# Altium footprint library BGA_Sq_127P.PcbLib: 89 footprints (part 7 of 20)
Each footprint in its own frame and in the unit in brackets; x right, y up, seen from the top. Pads: shape width x height; smd on the part's side, far side on the other; paste and mask are expansions set on the pad; w line width, h text height; cw(c..) or ccw(c..) is an arc to the next point about the centre after c.
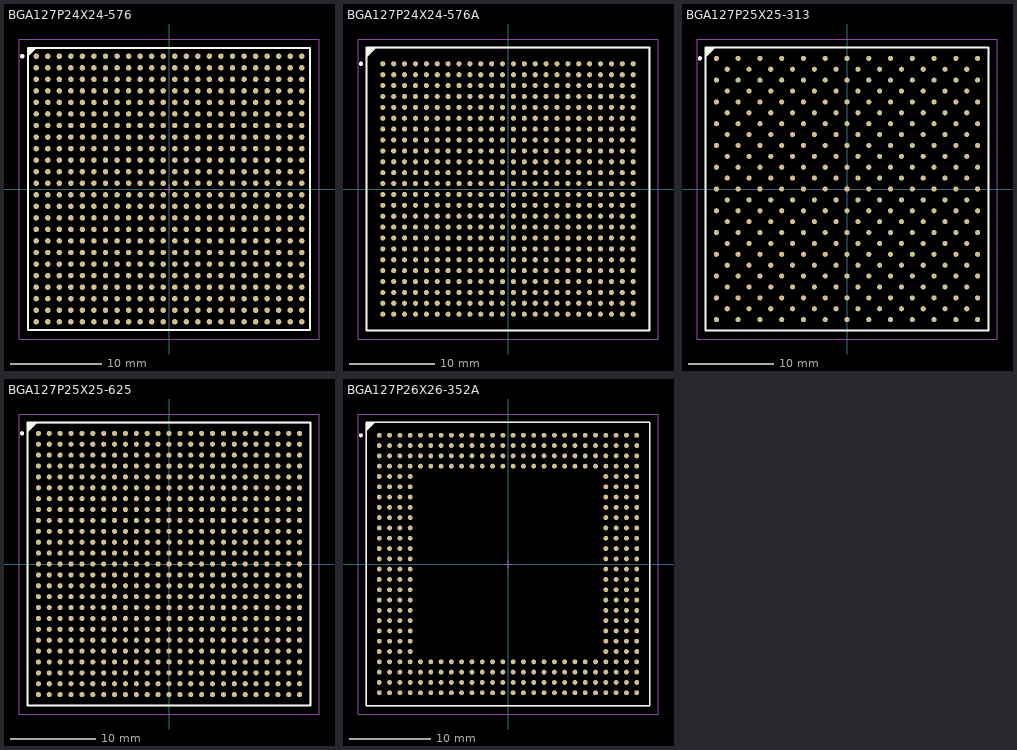
[diagram p6: the footprints below, top view; thin cyan lines are the x and y axes]

## BGA127P24X24-576 [mm] "BGA, 576-Leads, Body 31x31mm, Pitch 1.27mm"
height 3.5
pads (576):
  round 0.6 smd: A1(-14.605,14.605) A2(-13.335,14.605) A3(-12.065,14.605) A4(-10.795,14.605) A5(-9.525,14.605) A6(-8.255,14.605) A7(-6.985,14.605) A8(-5.715,14.605) A9(-4.445,14.605) A10(-3.175,14.605) A11(-1.905,14.605) A12(-0.635,14.605) A13(0.635,14.605) A14(1.905,14.605) A15(3.175,14.605) A16(4.445,14.605) A17(5.715,14.605) A18(6.985,14.605) A19(8.255,14.605) A20(9.525,14.605) A21(10.795,14.605) A22(12.065,14.605) A23(13.335,14.605) A24(14.605,14.605) AA1(-14.605,-10.795) AA2(-13.335,-10.795) AA3(-12.065,-10.795) AA4(-10.795,-10.795) AA5(-9.525,-10.795) AA6(-8.255,-10.795) AA7(-6.985,-10.795) AA8(-5.715,-10.795) AA9(-4.445,-10.795) AA10(-3.175,-10.795) AA11(-1.905,-10.795) AA12(-0.635,-10.795) AA13(0.635,-10.795) AA14(1.905,-10.795) AA15(3.175,-10.795) AA16(4.445,-10.795) AA17(5.715,-10.795) AA18(6.985,-10.795) AA19(8.255,-10.795) AA20(9.525,-10.795) AA21(10.795,-10.795) AA22(12.065,-10.795) AA23(13.335,-10.795) AA24(14.605,-10.795) AB1(-14.605,-12.065) AB2(-13.335,-12.065) AB3(-12.065,-12.065) AB4(-10.795,-12.065) AB5(-9.525,-12.065) AB6(-8.255,-12.065) AB7(-6.985,-12.065) AB8(-5.715,-12.065) AB9(-4.445,-12.065) AB10(-3.175,-12.065) AB11(-1.905,-12.065) AB12(-0.635,-12.065) AB13(0.635,-12.065) AB14(1.905,-12.065) AB15(3.175,-12.065) AB16(4.445,-12.065) AB17(5.715,-12.065) AB18(6.985,-12.065) AB19(8.255,-12.065) AB20(9.525,-12.065) AB21(10.795,-12.065) AB22(12.065,-12.065) AB23(13.335,-12.065) AB24(14.605,-12.065) AC1(-14.605,-13.335) AC2(-13.335,-13.335) AC3(-12.065,-13.335) AC4(-10.795,-13.335) AC5(-9.525,-13.335) AC6(-8.255,-13.335) AC7(-6.985,-13.335) AC8(-5.715,-13.335) AC9(-4.445,-13.335) AC10(-3.175,-13.335) AC11(-1.905,-13.335) AC12(-0.635,-13.335) AC13(0.635,-13.335) AC14(1.905,-13.335) AC15(3.175,-13.335) AC16(4.445,-13.335) AC17(5.715,-13.335) AC18(6.985,-13.335) AC19(8.255,-13.335) AC20(9.525,-13.335) AC21(10.795,-13.335) AC22(12.065,-13.335) AC23(13.335,-13.335) AC24(14.605,-13.335) AD1(-14.605,-14.605) AD2(-13.335,-14.605) AD3(-12.065,-14.605) AD4(-10.795,-14.605) AD5(-9.525,-14.605) AD6(-8.255,-14.605) AD7(-6.985,-14.605) AD8(-5.715,-14.605) AD9(-4.445,-14.605) AD10(-3.175,-14.605) AD11(-1.905,-14.605) AD12(-0.635,-14.605) AD13(0.635,-14.605) AD14(1.905,-14.605) AD15(3.175,-14.605) AD16(4.445,-14.605) AD17(5.715,-14.605) AD18(6.985,-14.605) AD19(8.255,-14.605) AD20(9.525,-14.605) AD21(10.795,-14.605) AD22(12.065,-14.605) AD23(13.335,-14.605) AD24(14.605,-14.605) B1(-14.605,13.335) B2(-13.335,13.335) B3(-12.065,13.335) B4(-10.795,13.335) B5(-9.525,13.335) B6(-8.255,13.335) B7(-6.985,13.335) B8(-5.715,13.335) B9(-4.445,13.335) B10(-3.175,13.335) B11(-1.905,13.335) B12(-0.635,13.335) B13(0.635,13.335) B14(1.905,13.335) B15(3.175,13.335) B16(4.445,13.335) B17(5.715,13.335) B18(6.985,13.335) B19(8.255,13.335) B20(9.525,13.335) B21(10.795,13.335) B22(12.065,13.335) B23(13.335,13.335) B24(14.605,13.335) C1(-14.605,12.065) C2(-13.335,12.065) C3(-12.065,12.065) C4(-10.795,12.065) C5(-9.525,12.065) C6(-8.255,12.065) C7(-6.985,12.065) C8(-5.715,12.065) C9(-4.445,12.065) C10(-3.175,12.065) C11(-1.905,12.065) C12(-0.635,12.065) C13(0.635,12.065) C14(1.905,12.065) C15(3.175,12.065) C16(4.445,12.065) C17(5.715,12.065) C18(6.985,12.065) C19(8.255,12.065) C20(9.525,12.065) C21(10.795,12.065) C22(12.065,12.065) C23(13.335,12.065) C24(14.605,12.065) D1(-14.605,10.795) D2(-13.335,10.795) D3(-12.065,10.795) D4(-10.795,10.795) D5(-9.525,10.795) D6(-8.255,10.795) D7(-6.985,10.795) D8(-5.715,10.795) D9(-4.445,10.795) D10(-3.175,10.795) D11(-1.905,10.795) D12(-0.635,10.795) D13(0.635,10.795) D14(1.905,10.795) D15(3.175,10.795) D16(4.445,10.795) D17(5.715,10.795) D18(6.985,10.795) D19(8.255,10.795) D20(9.525,10.795) D21(10.795,10.795) D22(12.065,10.795) D23(13.335,10.795) D24(14.605,10.795) E1(-14.605,9.525) E2(-13.335,9.525) E3(-12.065,9.525) E4(-10.795,9.525) E5(-9.525,9.525) E6(-8.255,9.525) E7(-6.985,9.525) E8(-5.715,9.525) E9(-4.445,9.525) E10(-3.175,9.525) E11(-1.905,9.525) E12(-0.635,9.525) E13(0.635,9.525) E14(1.905,9.525) E15(3.175,9.525) E16(4.445,9.525) E17(5.715,9.525) E18(6.985,9.525) E19(8.255,9.525) E20(9.525,9.525) E21(10.795,9.525) E22(12.065,9.525) E23(13.335,9.525) E24(14.605,9.525) F1(-14.605,8.255) F2(-13.335,8.255) F3(-12.065,8.255) F4(-10.795,8.255) F5(-9.525,8.255) F6(-8.255,8.255) F7(-6.985,8.255) F8(-5.715,8.255) F9(-4.445,8.255) F10(-3.175,8.255) F11(-1.905,8.255) F12(-0.635,8.255) F13(0.635,8.255) F14(1.905,8.255) F15(3.175,8.255) F16(4.445,8.255) F17(5.715,8.255) F18(6.985,8.255) F19(8.255,8.255) F20(9.525,8.255) F21(10.795,8.255) F22(12.065,8.255) F23(13.335,8.255) F24(14.605,8.255) G1(-14.605,6.985) G2(-13.335,6.985) G3(-12.065,6.985) G4(-10.795,6.985) G5(-9.525,6.985) G6(-8.255,6.985) G7(-6.985,6.985) G8(-5.715,6.985) G9(-4.445,6.985) G10(-3.175,6.985) G11(-1.905,6.985) G12(-0.635,6.985) G13(0.635,6.985) G14(1.905,6.985) G15(3.175,6.985) G16(4.445,6.985) G17(5.715,6.985) G18(6.985,6.985) G19(8.255,6.985) G20(9.525,6.985) G21(10.795,6.985) G22(12.065,6.985) G23(13.335,6.985) G24(14.605,6.985) H1(-14.605,5.715) H2(-13.335,5.715) H3(-12.065,5.715) H4(-10.795,5.715) H5(-9.525,5.715) H6(-8.255,5.715) H7(-6.985,5.715) H8(-5.715,5.715) H9(-4.445,5.715) H10(-3.175,5.715) H11(-1.905,5.715) H12(-0.635,5.715) H13(0.635,5.715) H14(1.905,5.715) H15(3.175,5.715) H16(4.445,5.715) H17(5.715,5.715) H18(6.985,5.715) H19(8.255,5.715) H20(9.525,5.715) H21(10.795,5.715) H22(12.065,5.715) H23(13.335,5.715) H24(14.605,5.715) J1(-14.605,4.445) J2(-13.335,4.445) J3(-12.065,4.445) J4(-10.795,4.445) J5(-9.525,4.445) J6(-8.255,4.445) J7(-6.985,4.445) J8(-5.715,4.445) J9(-4.445,4.445) J10(-3.175,4.445) J11(-1.905,4.445) J12(-0.635,4.445) J13(0.635,4.445) J14(1.905,4.445) J15(3.175,4.445) J16(4.445,4.445) J17(5.715,4.445) J18(6.985,4.445) J19(8.255,4.445) J20(9.525,4.445) J21(10.795,4.445) J22(12.065,4.445) J23(13.335,4.445) J24(14.605,4.445) K1(-14.605,3.175) K2(-13.335,3.175) K3(-12.065,3.175) K4(-10.795,3.175) K5(-9.525,3.175) K6(-8.255,3.175) K7(-6.985,3.175) K8(-5.715,3.175) K9(-4.445,3.175) K10(-3.175,3.175) K11(-1.905,3.175) K12(-0.635,3.175) K13(0.635,3.175) K14(1.905,3.175) K15(3.175,3.175) K16(4.445,3.175) K17(5.715,3.175) K18(6.985,3.175) K19(8.255,3.175) K20(9.525,3.175) K21(10.795,3.175) K22(12.065,3.175) K23(13.335,3.175) K24(14.605,3.175) L1(-14.605,1.905) L2(-13.335,1.905) L3(-12.065,1.905) L4(-10.795,1.905) L5(-9.525,1.905) L6(-8.255,1.905) L7(-6.985,1.905) L8(-5.715,1.905) L9(-4.445,1.905) L10(-3.175,1.905) L11(-1.905,1.905) L12(-0.635,1.905) L13(0.635,1.905) L14(1.905,1.905) L15(3.175,1.905) L16(4.445,1.905) L17(5.715,1.905) L18(6.985,1.905) L19(8.255,1.905) L20(9.525,1.905) L21(10.795,1.905) L22(12.065,1.905) L23(13.335,1.905) L24(14.605,1.905) M1(-14.605,0.635) M2(-13.335,0.635) M3(-12.065,0.635) M4(-10.795,0.635) M5(-9.525,0.635) M6(-8.255,0.635) M7(-6.985,0.635) M8(-5.715,0.635) M9(-4.445,0.635) M10(-3.175,0.635) M11(-1.905,0.635) M12(-0.635,0.635) M13(0.635,0.635) M14(1.905,0.635) M15(3.175,0.635) M16(4.445,0.635) M17(5.715,0.635) M18(6.985,0.635) M19(8.255,0.635) M20(9.525,0.635) M21(10.795,0.635) M22(12.065,0.635) M23(13.335,0.635) M24(14.605,0.635) N1(-14.605,-0.635) N2(-13.335,-0.635) N3(-12.065,-0.635) N4(-10.795,-0.635) N5(-9.525,-0.635) N6(-8.255,-0.635) N7(-6.985,-0.635) N8(-5.715,-0.635) N9(-4.445,-0.635) N10(-3.175,-0.635) N11(-1.905,-0.635) N12(-0.635,-0.635) N13(0.635,-0.635) N14(1.905,-0.635) N15(3.175,-0.635) N16(4.445,-0.635) N17(5.715,-0.635) N18(6.985,-0.635) N19(8.255,-0.635) N20(9.525,-0.635) N21(10.795,-0.635) N22(12.065,-0.635) N23(13.335,-0.635) N24(14.605,-0.635) P1(-14.605,-1.905) P2(-13.335,-1.905) P3(-12.065,-1.905) P4(-10.795,-1.905) P5(-9.525,-1.905) P6(-8.255,-1.905) P7(-6.985,-1.905) P8(-5.715,-1.905) P9(-4.445,-1.905) P10(-3.175,-1.905) P11(-1.905,-1.905) P12(-0.635,-1.905) P13(0.635,-1.905) P14(1.905,-1.905) P15(3.175,-1.905) P16(4.445,-1.905) P17(5.715,-1.905) P18(6.985,-1.905) P19(8.255,-1.905) P20(9.525,-1.905) P21(10.795,-1.905) P22(12.065,-1.905) P23(13.335,-1.905) P24(14.605,-1.905) R1(-14.605,-3.175) R2(-13.335,-3.175) R3(-12.065,-3.175) R4(-10.795,-3.175) R5(-9.525,-3.175) R6(-8.255,-3.175) R7(-6.985,-3.175) R8(-5.715,-3.175) R9(-4.445,-3.175) R10(-3.175,-3.175) R11(-1.905,-3.175) R12(-0.635,-3.175) R13(0.635,-3.175) R14(1.905,-3.175) R15(3.175,-3.175) R16(4.445,-3.175) R17(5.715,-3.175) R18(6.985,-3.175) R19(8.255,-3.175) R20(9.525,-3.175) R21(10.795,-3.175) R22(12.065,-3.175) R23(13.335,-3.175) R24(14.605,-3.175) T1(-14.605,-4.445) T2(-13.335,-4.445) T3(-12.065,-4.445) T4(-10.795,-4.445) T5(-9.525,-4.445) T6(-8.255,-4.445) T7(-6.985,-4.445) T8(-5.715,-4.445) T9(-4.445,-4.445) T10(-3.175,-4.445) T11(-1.905,-4.445) T12(-0.635,-4.445) T13(0.635,-4.445) T14(1.905,-4.445) T15(3.175,-4.445) T16(4.445,-4.445) T17(5.715,-4.445) T18(6.985,-4.445) T19(8.255,-4.445) T20(9.525,-4.445) T21(10.795,-4.445) T22(12.065,-4.445) T23(13.335,-4.445) T24(14.605,-4.445) U1(-14.605,-5.715) U2(-13.335,-5.715) U3(-12.065,-5.715) U4(-10.795,-5.715) U5(-9.525,-5.715) U6(-8.255,-5.715) U7(-6.985,-5.715) U8(-5.715,-5.715) U9(-4.445,-5.715) U10(-3.175,-5.715) U11(-1.905,-5.715) U12(-0.635,-5.715) U13(0.635,-5.715) U14(1.905,-5.715) U15(3.175,-5.715) U16(4.445,-5.715) U17(5.715,-5.715) U18(6.985,-5.715) U19(8.255,-5.715) U20(9.525,-5.715) U21(10.795,-5.715) U22(12.065,-5.715) U23(13.335,-5.715) U24(14.605,-5.715) V1(-14.605,-6.985) V2(-13.335,-6.985) V3(-12.065,-6.985) V4(-10.795,-6.985) V5(-9.525,-6.985) V6(-8.255,-6.985) V7(-6.985,-6.985) V8(-5.715,-6.985) V9(-4.445,-6.985) V10(-3.175,-6.985) V11(-1.905,-6.985) V12(-0.635,-6.985) V13(0.635,-6.985) V14(1.905,-6.985) V15(3.175,-6.985) V16(4.445,-6.985) V17(5.715,-6.985) V18(6.985,-6.985) V19(8.255,-6.985) V20(9.525,-6.985) V21(10.795,-6.985) V22(12.065,-6.985) V23(13.335,-6.985) V24(14.605,-6.985) W1(-14.605,-8.255) W2(-13.335,-8.255) W3(-12.065,-8.255) W4(-10.795,-8.255) W5(-9.525,-8.255) W6(-8.255,-8.255) W7(-6.985,-8.255) W8(-5.715,-8.255) W9(-4.445,-8.255) W10(-3.175,-8.255) W11(-1.905,-8.255) W12(-0.635,-8.255) W13(0.635,-8.255) W14(1.905,-8.255) W15(3.175,-8.255) W16(4.445,-8.255) W17(5.715,-8.255) W18(6.985,-8.255) W19(8.255,-8.255) W20(9.525,-8.255) W21(10.795,-8.255) W22(12.065,-8.255) W23(13.335,-8.255) W24(14.605,-8.255) Y1(-14.605,-9.525) Y2(-13.335,-9.525) Y3(-12.065,-9.525) Y4(-10.795,-9.525) Y5(-9.525,-9.525) Y6(-8.255,-9.525) Y7(-6.985,-9.525) Y8(-5.715,-9.525) Y9(-4.445,-9.525) Y10(-3.175,-9.525) Y11(-1.905,-9.525) Y12(-0.635,-9.525) Y13(0.635,-9.525) Y14(1.905,-9.525) Y15(3.175,-9.525) Y16(4.445,-9.525) Y17(5.715,-9.525) Y18(6.985,-9.525) Y19(8.255,-9.525) Y20(9.525,-9.525) Y21(10.795,-9.525) Y22(12.065,-9.525) Y23(13.335,-9.525) Y24(14.605,-9.525)
Top Overlay:
  circle w0.25: c-16.15,14.605 r0.125
  region: -14.7,15.5 -15.5,14.7 -15.5,15.5
  lines w0.2: -15.5,14.7 -14.7,15.5 ; -15.5,-15.5 15.5,-15.5 15.5,15.5 -15.5,15.5 -15.5,-15.5
Mechanical 13:
  lines w0.1: -15.5,-15.5 15.5,-15.5 15.5,15.5 -15.5,15.5 -15.5,-15.5
Mechanical 15:
  lines w0.1: -0.5,0 0.5,0 ; 0,-0.5 0,0.5 ; -16.5,-16.5 16.5,-16.5 16.5,16.5 -16.5,16.5 -16.5,-16.5
3D body: height 3.5, standoff 0, extent -15.5,-15.5 15.5,15.5

## BGA127P24X24-576A [mm] "BGA, 576-Leads, Body 33x33mm, Pitch 1.27mm"
height 3.5
pads (576):
  round 0.6 smd: A1(-14.605,14.605) A2(-13.335,14.605) A3(-12.065,14.605) A4(-10.795,14.605) A5(-9.525,14.605) A6(-8.255,14.605) A7(-6.985,14.605) A8(-5.715,14.605) A9(-4.445,14.605) A10(-3.175,14.605) A11(-1.905,14.605) A12(-0.635,14.605) A13(0.635,14.605) A14(1.905,14.605) A15(3.175,14.605) A16(4.445,14.605) A17(5.715,14.605) A18(6.985,14.605) A19(8.255,14.605) A20(9.525,14.605) A21(10.795,14.605) A22(12.065,14.605) A23(13.335,14.605) A24(14.605,14.605) AA1(-14.605,-10.795) AA2(-13.335,-10.795) AA3(-12.065,-10.795) AA4(-10.795,-10.795) AA5(-9.525,-10.795) AA6(-8.255,-10.795) AA7(-6.985,-10.795) AA8(-5.715,-10.795) AA9(-4.445,-10.795) AA10(-3.175,-10.795) AA11(-1.905,-10.795) AA12(-0.635,-10.795) AA13(0.635,-10.795) AA14(1.905,-10.795) AA15(3.175,-10.795) AA16(4.445,-10.795) AA17(5.715,-10.795) AA18(6.985,-10.795) AA19(8.255,-10.795) AA20(9.525,-10.795) AA21(10.795,-10.795) AA22(12.065,-10.795) AA23(13.335,-10.795) AA24(14.605,-10.795) AB1(-14.605,-12.065) AB2(-13.335,-12.065) AB3(-12.065,-12.065) AB4(-10.795,-12.065) AB5(-9.525,-12.065) AB6(-8.255,-12.065) AB7(-6.985,-12.065) AB8(-5.715,-12.065) AB9(-4.445,-12.065) AB10(-3.175,-12.065) AB11(-1.905,-12.065) AB12(-0.635,-12.065) AB13(0.635,-12.065) AB14(1.905,-12.065) AB15(3.175,-12.065) AB16(4.445,-12.065) AB17(5.715,-12.065) AB18(6.985,-12.065) AB19(8.255,-12.065) AB20(9.525,-12.065) AB21(10.795,-12.065) AB22(12.065,-12.065) AB23(13.335,-12.065) AB24(14.605,-12.065) AC1(-14.605,-13.335) AC2(-13.335,-13.335) AC3(-12.065,-13.335) AC4(-10.795,-13.335) AC5(-9.525,-13.335) AC6(-8.255,-13.335) AC7(-6.985,-13.335) AC8(-5.715,-13.335) AC9(-4.445,-13.335) AC10(-3.175,-13.335) AC11(-1.905,-13.335) AC12(-0.635,-13.335) AC13(0.635,-13.335) AC14(1.905,-13.335) AC15(3.175,-13.335) AC16(4.445,-13.335) AC17(5.715,-13.335) AC18(6.985,-13.335) AC19(8.255,-13.335) AC20(9.525,-13.335) AC21(10.795,-13.335) AC22(12.065,-13.335) AC23(13.335,-13.335) AC24(14.605,-13.335) AD1(-14.605,-14.605) AD2(-13.335,-14.605) AD3(-12.065,-14.605) AD4(-10.795,-14.605) AD5(-9.525,-14.605) AD6(-8.255,-14.605) AD7(-6.985,-14.605) AD8(-5.715,-14.605) AD9(-4.445,-14.605) AD10(-3.175,-14.605) AD11(-1.905,-14.605) AD12(-0.635,-14.605) AD13(0.635,-14.605) AD14(1.905,-14.605) AD15(3.175,-14.605) AD16(4.445,-14.605) AD17(5.715,-14.605) AD18(6.985,-14.605) AD19(8.255,-14.605) AD20(9.525,-14.605) AD21(10.795,-14.605) AD22(12.065,-14.605) AD23(13.335,-14.605) AD24(14.605,-14.605) B1(-14.605,13.335) B2(-13.335,13.335) B3(-12.065,13.335) B4(-10.795,13.335) B5(-9.525,13.335) B6(-8.255,13.335) B7(-6.985,13.335) B8(-5.715,13.335) B9(-4.445,13.335) B10(-3.175,13.335) B11(-1.905,13.335) B12(-0.635,13.335) B13(0.635,13.335) B14(1.905,13.335) B15(3.175,13.335) B16(4.445,13.335) B17(5.715,13.335) B18(6.985,13.335) B19(8.255,13.335) B20(9.525,13.335) B21(10.795,13.335) B22(12.065,13.335) B23(13.335,13.335) B24(14.605,13.335) C1(-14.605,12.065) C2(-13.335,12.065) C3(-12.065,12.065) C4(-10.795,12.065) C5(-9.525,12.065) C6(-8.255,12.065) C7(-6.985,12.065) C8(-5.715,12.065) C9(-4.445,12.065) C10(-3.175,12.065) C11(-1.905,12.065) C12(-0.635,12.065) C13(0.635,12.065) C14(1.905,12.065) C15(3.175,12.065) C16(4.445,12.065) C17(5.715,12.065) C18(6.985,12.065) C19(8.255,12.065) C20(9.525,12.065) C21(10.795,12.065) C22(12.065,12.065) C23(13.335,12.065) C24(14.605,12.065) D1(-14.605,10.795) D2(-13.335,10.795) D3(-12.065,10.795) D4(-10.795,10.795) D5(-9.525,10.795) D6(-8.255,10.795) D7(-6.985,10.795) D8(-5.715,10.795) D9(-4.445,10.795) D10(-3.175,10.795) D11(-1.905,10.795) D12(-0.635,10.795) D13(0.635,10.795) D14(1.905,10.795) D15(3.175,10.795) D16(4.445,10.795) D17(5.715,10.795) D18(6.985,10.795) D19(8.255,10.795) D20(9.525,10.795) D21(10.795,10.795) D22(12.065,10.795) D23(13.335,10.795) D24(14.605,10.795) E1(-14.605,9.525) E2(-13.335,9.525) E3(-12.065,9.525) E4(-10.795,9.525) E5(-9.525,9.525) E6(-8.255,9.525) E7(-6.985,9.525) E8(-5.715,9.525) E9(-4.445,9.525) E10(-3.175,9.525) E11(-1.905,9.525) E12(-0.635,9.525) E13(0.635,9.525) E14(1.905,9.525) E15(3.175,9.525) E16(4.445,9.525) E17(5.715,9.525) E18(6.985,9.525) E19(8.255,9.525) E20(9.525,9.525) E21(10.795,9.525) E22(12.065,9.525) E23(13.335,9.525) E24(14.605,9.525) F1(-14.605,8.255) F2(-13.335,8.255) F3(-12.065,8.255) F4(-10.795,8.255) F5(-9.525,8.255) F6(-8.255,8.255) F7(-6.985,8.255) F8(-5.715,8.255) F9(-4.445,8.255) F10(-3.175,8.255) F11(-1.905,8.255) F12(-0.635,8.255) F13(0.635,8.255) F14(1.905,8.255) F15(3.175,8.255) F16(4.445,8.255) F17(5.715,8.255) F18(6.985,8.255) F19(8.255,8.255) F20(9.525,8.255) F21(10.795,8.255) F22(12.065,8.255) F23(13.335,8.255) F24(14.605,8.255) G1(-14.605,6.985) G2(-13.335,6.985) G3(-12.065,6.985) G4(-10.795,6.985) G5(-9.525,6.985) G6(-8.255,6.985) G7(-6.985,6.985) G8(-5.715,6.985) G9(-4.445,6.985) G10(-3.175,6.985) G11(-1.905,6.985) G12(-0.635,6.985) G13(0.635,6.985) G14(1.905,6.985) G15(3.175,6.985) G16(4.445,6.985) G17(5.715,6.985) G18(6.985,6.985) G19(8.255,6.985) G20(9.525,6.985) G21(10.795,6.985) G22(12.065,6.985) G23(13.335,6.985) G24(14.605,6.985) H1(-14.605,5.715) H2(-13.335,5.715) H3(-12.065,5.715) H4(-10.795,5.715) H5(-9.525,5.715) H6(-8.255,5.715) H7(-6.985,5.715) H8(-5.715,5.715) H9(-4.445,5.715) H10(-3.175,5.715) H11(-1.905,5.715) H12(-0.635,5.715) H13(0.635,5.715) H14(1.905,5.715) H15(3.175,5.715) H16(4.445,5.715) H17(5.715,5.715) H18(6.985,5.715) H19(8.255,5.715) H20(9.525,5.715) H21(10.795,5.715) H22(12.065,5.715) H23(13.335,5.715) H24(14.605,5.715) J1(-14.605,4.445) J2(-13.335,4.445) J3(-12.065,4.445) J4(-10.795,4.445) J5(-9.525,4.445) J6(-8.255,4.445) J7(-6.985,4.445) J8(-5.715,4.445) J9(-4.445,4.445) J10(-3.175,4.445) J11(-1.905,4.445) J12(-0.635,4.445) J13(0.635,4.445) J14(1.905,4.445) J15(3.175,4.445) J16(4.445,4.445) J17(5.715,4.445) J18(6.985,4.445) J19(8.255,4.445) J20(9.525,4.445) J21(10.795,4.445) J22(12.065,4.445) J23(13.335,4.445) J24(14.605,4.445) K1(-14.605,3.175) K2(-13.335,3.175) K3(-12.065,3.175) K4(-10.795,3.175) K5(-9.525,3.175) K6(-8.255,3.175) K7(-6.985,3.175) K8(-5.715,3.175) K9(-4.445,3.175) K10(-3.175,3.175) K11(-1.905,3.175) K12(-0.635,3.175) K13(0.635,3.175) K14(1.905,3.175) K15(3.175,3.175) K16(4.445,3.175) K17(5.715,3.175) K18(6.985,3.175) K19(8.255,3.175) K20(9.525,3.175) K21(10.795,3.175) K22(12.065,3.175) K23(13.335,3.175) K24(14.605,3.175) L1(-14.605,1.905) L2(-13.335,1.905) L3(-12.065,1.905) L4(-10.795,1.905) L5(-9.525,1.905) L6(-8.255,1.905) L7(-6.985,1.905) L8(-5.715,1.905) L9(-4.445,1.905) L10(-3.175,1.905) L11(-1.905,1.905) L12(-0.635,1.905) L13(0.635,1.905) L14(1.905,1.905) L15(3.175,1.905) L16(4.445,1.905) L17(5.715,1.905) L18(6.985,1.905) L19(8.255,1.905) L20(9.525,1.905) L21(10.795,1.905) L22(12.065,1.905) L23(13.335,1.905) L24(14.605,1.905) M1(-14.605,0.635) M2(-13.335,0.635) M3(-12.065,0.635) M4(-10.795,0.635) M5(-9.525,0.635) M6(-8.255,0.635) M7(-6.985,0.635) M8(-5.715,0.635) M9(-4.445,0.635) M10(-3.175,0.635) M11(-1.905,0.635) M12(-0.635,0.635) M13(0.635,0.635) M14(1.905,0.635) M15(3.175,0.635) M16(4.445,0.635) M17(5.715,0.635) M18(6.985,0.635) M19(8.255,0.635) M20(9.525,0.635) M21(10.795,0.635) M22(12.065,0.635) M23(13.335,0.635) M24(14.605,0.635) N1(-14.605,-0.635) N2(-13.335,-0.635) N3(-12.065,-0.635) N4(-10.795,-0.635) N5(-9.525,-0.635) N6(-8.255,-0.635) N7(-6.985,-0.635) N8(-5.715,-0.635) N9(-4.445,-0.635) N10(-3.175,-0.635) N11(-1.905,-0.635) N12(-0.635,-0.635) N13(0.635,-0.635) N14(1.905,-0.635) N15(3.175,-0.635) N16(4.445,-0.635) N17(5.715,-0.635) N18(6.985,-0.635) N19(8.255,-0.635) N20(9.525,-0.635) N21(10.795,-0.635) N22(12.065,-0.635) N23(13.335,-0.635) N24(14.605,-0.635) P1(-14.605,-1.905) P2(-13.335,-1.905) P3(-12.065,-1.905) P4(-10.795,-1.905) P5(-9.525,-1.905) P6(-8.255,-1.905) P7(-6.985,-1.905) P8(-5.715,-1.905) P9(-4.445,-1.905) P10(-3.175,-1.905) P11(-1.905,-1.905) P12(-0.635,-1.905) P13(0.635,-1.905) P14(1.905,-1.905) P15(3.175,-1.905) P16(4.445,-1.905) P17(5.715,-1.905) P18(6.985,-1.905) P19(8.255,-1.905) P20(9.525,-1.905) P21(10.795,-1.905) P22(12.065,-1.905) P23(13.335,-1.905) P24(14.605,-1.905) R1(-14.605,-3.175) R2(-13.335,-3.175) R3(-12.065,-3.175) R4(-10.795,-3.175) R5(-9.525,-3.175) R6(-8.255,-3.175) R7(-6.985,-3.175) R8(-5.715,-3.175) R9(-4.445,-3.175) R10(-3.175,-3.175) R11(-1.905,-3.175) R12(-0.635,-3.175) R13(0.635,-3.175) R14(1.905,-3.175) R15(3.175,-3.175) R16(4.445,-3.175) R17(5.715,-3.175) R18(6.985,-3.175) R19(8.255,-3.175) R20(9.525,-3.175) R21(10.795,-3.175) R22(12.065,-3.175) R23(13.335,-3.175) R24(14.605,-3.175) T1(-14.605,-4.445) T2(-13.335,-4.445) T3(-12.065,-4.445) T4(-10.795,-4.445) T5(-9.525,-4.445) T6(-8.255,-4.445) T7(-6.985,-4.445) T8(-5.715,-4.445) T9(-4.445,-4.445) T10(-3.175,-4.445) T11(-1.905,-4.445) T12(-0.635,-4.445) T13(0.635,-4.445) T14(1.905,-4.445) T15(3.175,-4.445) T16(4.445,-4.445) T17(5.715,-4.445) T18(6.985,-4.445) T19(8.255,-4.445) T20(9.525,-4.445) T21(10.795,-4.445) T22(12.065,-4.445) T23(13.335,-4.445) T24(14.605,-4.445) U1(-14.605,-5.715) U2(-13.335,-5.715) U3(-12.065,-5.715) U4(-10.795,-5.715) U5(-9.525,-5.715) U6(-8.255,-5.715) U7(-6.985,-5.715) U8(-5.715,-5.715) U9(-4.445,-5.715) U10(-3.175,-5.715) U11(-1.905,-5.715) U12(-0.635,-5.715) U13(0.635,-5.715) U14(1.905,-5.715) U15(3.175,-5.715) U16(4.445,-5.715) U17(5.715,-5.715) U18(6.985,-5.715) U19(8.255,-5.715) U20(9.525,-5.715) U21(10.795,-5.715) U22(12.065,-5.715) U23(13.335,-5.715) U24(14.605,-5.715) V1(-14.605,-6.985) V2(-13.335,-6.985) V3(-12.065,-6.985) V4(-10.795,-6.985) V5(-9.525,-6.985) V6(-8.255,-6.985) V7(-6.985,-6.985) V8(-5.715,-6.985) V9(-4.445,-6.985) V10(-3.175,-6.985) V11(-1.905,-6.985) V12(-0.635,-6.985) V13(0.635,-6.985) V14(1.905,-6.985) V15(3.175,-6.985) V16(4.445,-6.985) V17(5.715,-6.985) V18(6.985,-6.985) V19(8.255,-6.985) V20(9.525,-6.985) V21(10.795,-6.985) V22(12.065,-6.985) V23(13.335,-6.985) V24(14.605,-6.985) W1(-14.605,-8.255) W2(-13.335,-8.255) W3(-12.065,-8.255) W4(-10.795,-8.255) W5(-9.525,-8.255) W6(-8.255,-8.255) W7(-6.985,-8.255) W8(-5.715,-8.255) W9(-4.445,-8.255) W10(-3.175,-8.255) W11(-1.905,-8.255) W12(-0.635,-8.255) W13(0.635,-8.255) W14(1.905,-8.255) W15(3.175,-8.255) W16(4.445,-8.255) W17(5.715,-8.255) W18(6.985,-8.255) W19(8.255,-8.255) W20(9.525,-8.255) W21(10.795,-8.255) W22(12.065,-8.255) W23(13.335,-8.255) W24(14.605,-8.255) Y1(-14.605,-9.525) Y2(-13.335,-9.525) Y3(-12.065,-9.525) Y4(-10.795,-9.525) Y5(-9.525,-9.525) Y6(-8.255,-9.525) Y7(-6.985,-9.525) Y8(-5.715,-9.525) Y9(-4.445,-9.525) Y10(-3.175,-9.525) Y11(-1.905,-9.525) Y12(-0.635,-9.525) Y13(0.635,-9.525) Y14(1.905,-9.525) Y15(3.175,-9.525) Y16(4.445,-9.525) Y17(5.715,-9.525) Y18(6.985,-9.525) Y19(8.255,-9.525) Y20(9.525,-9.525) Y21(10.795,-9.525) Y22(12.065,-9.525) Y23(13.335,-9.525) Y24(14.605,-9.525)
Top Overlay:
  circle w0.25: c-17.15,14.605 r0.125
  region: -15.5,16.5 -16.5,15.5 -16.5,16.5
  lines w0.2: -16.5,15.5 -15.5,16.5 ; -16.5,-16.5 16.5,-16.5 16.5,16.5 -16.5,16.5 -16.5,-16.5
Mechanical 13:
  lines w0.1: -16.5,-16.5 16.5,-16.5 16.5,16.5 -16.5,16.5 -16.5,-16.5
Mechanical 15:
  lines w0.1: -0.5,0 0.5,0 ; 0,-0.5 0,0.5 ; -17.5,-17.5 17.5,-17.5 17.5,17.5 -17.5,17.5 -17.5,-17.5
3D body: height 3.5, standoff 0, extent -16.5,-16.5 16.5,16.5

## BGA127P25X25-313 [mm] "BGA, Staggered, 313-Leads, Body 35x35mm, Pitch 1.27mm"
height 2.52
pads (313):
  round 0.6 smd: A1(-15.24,15.24) A3(-12.7,15.24) A5(-10.16,15.24) A7(-7.62,15.24) A9(-5.08,15.24) A11(-2.54,15.24) A13(0,15.24) A15(2.54,15.24) A17(5.08,15.24) A19(7.62,15.24) A21(10.16,15.24) A23(12.7,15.24) A25(15.24,15.24) AA1(-15.24,-10.16) AA3(-12.7,-10.16) AA5(-10.16,-10.16) AA7(-7.62,-10.16) AA9(-5.08,-10.16) AA11(-2.54,-10.16) AA13(0,-10.16) AA15(2.54,-10.16) AA17(5.08,-10.16) AA19(7.62,-10.16) AA21(10.16,-10.16) AA23(12.7,-10.16) AA25(15.24,-10.16) AB2(-13.97,-11.43) AB4(-11.43,-11.43) AB6(-8.89,-11.43) AB8(-6.35,-11.43) AB10(-3.81,-11.43) AB12(-1.27,-11.43) AB14(1.27,-11.43) AB16(3.81,-11.43) AB18(6.35,-11.43) AB20(8.89,-11.43) AB22(11.43,-11.43) AB24(13.97,-11.43) AC1(-15.24,-12.7) AC3(-12.7,-12.7) AC5(-10.16,-12.7) AC7(-7.62,-12.7) AC9(-5.08,-12.7) AC11(-2.54,-12.7) AC13(0,-12.7) AC15(2.54,-12.7) AC17(5.08,-12.7) AC19(7.62,-12.7) AC21(10.16,-12.7) AC23(12.7,-12.7) AC25(15.24,-12.7) AD2(-13.97,-13.97) AD4(-11.43,-13.97) AD6(-8.89,-13.97) AD8(-6.35,-13.97) AD10(-3.81,-13.97) AD12(-1.27,-13.97) AD14(1.27,-13.97) AD16(3.81,-13.97) AD18(6.35,-13.97) AD20(8.89,-13.97) AD22(11.43,-13.97) AD24(13.97,-13.97) AE1(-15.24,-15.24) AE3(-12.7,-15.24) AE5(-10.16,-15.24) AE7(-7.62,-15.24) AE9(-5.08,-15.24) AE11(-2.54,-15.24) AE13(0,-15.24) AE15(2.54,-15.24) AE17(5.08,-15.24) AE19(7.62,-15.24) AE21(10.16,-15.24) AE23(12.7,-15.24) AE25(15.24,-15.24) B2(-13.97,13.97) B4(-11.43,13.97) B6(-8.89,13.97) B8(-6.35,13.97) B10(-3.81,13.97) B12(-1.27,13.97) B14(1.27,13.97) B16(3.81,13.97) B18(6.35,13.97) B20(8.89,13.97) B22(11.43,13.97) B24(13.97,13.97) C1(-15.24,12.7) C3(-12.7,12.7) C5(-10.16,12.7) C7(-7.62,12.7) C9(-5.08,12.7) C11(-2.54,12.7) C13(0,12.7) C15(2.54,12.7) C17(5.08,12.7) C19(7.62,12.7) C21(10.16,12.7) C23(12.7,12.7) C25(15.24,12.7) D2(-13.97,11.43) D4(-11.43,11.43) D6(-8.89,11.43) D8(-6.35,11.43) D10(-3.81,11.43) D12(-1.27,11.43) D14(1.27,11.43) D16(3.81,11.43) D18(6.35,11.43) D20(8.89,11.43) D22(11.43,11.43) D24(13.97,11.43) E1(-15.24,10.16) E3(-12.7,10.16) E5(-10.16,10.16) E7(-7.62,10.16) E9(-5.08,10.16) E11(-2.54,10.16) E13(0,10.16) E15(2.54,10.16) E17(5.08,10.16) E19(7.62,10.16) E21(10.16,10.16) E23(12.7,10.16) E25(15.24,10.16) F2(-13.97,8.89) F4(-11.43,8.89) F6(-8.89,8.89) F8(-6.35,8.89) F10(-3.81,8.89) F12(-1.27,8.89) F14(1.27,8.89) F16(3.81,8.89) F18(6.35,8.89) F20(8.89,8.89) F22(11.43,8.89) F24(13.97,8.89) G1(-15.24,7.62) G3(-12.7,7.62) G5(-10.16,7.62) G7(-7.62,7.62) G9(-5.08,7.62) G11(-2.54,7.62) G13(0,7.62) G15(2.54,7.62) G17(5.08,7.62) G19(7.62,7.62) G21(10.16,7.62) G23(12.7,7.62) G25(15.24,7.62) H2(-13.97,6.35) H4(-11.43,6.35) H6(-8.89,6.35) H8(-6.35,6.35) H10(-3.81,6.35) H12(-1.27,6.35) H14(1.27,6.35) H16(3.81,6.35) H18(6.35,6.35) H20(8.89,6.35) H22(11.43,6.35) H24(13.97,6.35) J1(-15.24,5.08) J3(-12.7,5.08) J5(-10.16,5.08) J7(-7.62,5.08) J9(-5.08,5.08) J11(-2.54,5.08) J13(0,5.08) J15(2.54,5.08) J17(5.08,5.08) J19(7.62,5.08) J21(10.16,5.08) J23(12.7,5.08) J25(15.24,5.08) K2(-13.97,3.81) K4(-11.43,3.81) K6(-8.89,3.81) K8(-6.35,3.81) K10(-3.81,3.81) K12(-1.27,3.81) K14(1.27,3.81) K16(3.81,3.81) K18(6.35,3.81) K20(8.89,3.81) K22(11.43,3.81) K24(13.97,3.81) L1(-15.24,2.54) L3(-12.7,2.54) L5(-10.16,2.54) L7(-7.62,2.54) L9(-5.08,2.54) L11(-2.54,2.54) L13(0,2.54) L15(2.54,2.54) L17(5.08,2.54) L19(7.62,2.54) L21(10.16,2.54) L23(12.7,2.54) L25(15.24,2.54) M2(-13.97,1.27) M4(-11.43,1.27) M6(-8.89,1.27) M8(-6.35,1.27) M10(-3.81,1.27) M12(-1.27,1.27) M14(1.27,1.27) M16(3.81,1.27) M18(6.35,1.27) M20(8.89,1.27) M22(11.43,1.27) M24(13.97,1.27) N1(-15.24,0) N3(-12.7,0) N5(-10.16,0) N7(-7.62,0) N9(-5.08,0) N11(-2.54,0) N13(0,0) N15(2.54,0) N17(5.08,0) N19(7.62,0) N21(10.16,0) N23(12.7,0) N25(15.24,0) P2(-13.97,-1.27) P4(-11.43,-1.27) P6(-8.89,-1.27) P8(-6.35,-1.27) P10(-3.81,-1.27) P12(-1.27,-1.27) P14(1.27,-1.27) P16(3.81,-1.27) P18(6.35,-1.27) P20(8.89,-1.27) P22(11.43,-1.27) P24(13.97,-1.27) R1(-15.24,-2.54) R3(-12.7,-2.54) R5(-10.16,-2.54) R7(-7.62,-2.54) R9(-5.08,-2.54) R11(-2.54,-2.54) R13(0,-2.54) R15(2.54,-2.54) R17(5.08,-2.54) R19(7.62,-2.54) R21(10.16,-2.54) R23(12.7,-2.54) R25(15.24,-2.54) T2(-13.97,-3.81) T4(-11.43,-3.81) T6(-8.89,-3.81) T8(-6.35,-3.81) T10(-3.81,-3.81) T12(-1.27,-3.81) T14(1.27,-3.81) T16(3.81,-3.81) T18(6.35,-3.81) T20(8.89,-3.81) T22(11.43,-3.81) T24(13.97,-3.81) U1(-15.24,-5.08) U3(-12.7,-5.08) U5(-10.16,-5.08) U7(-7.62,-5.08) U9(-5.08,-5.08) U11(-2.54,-5.08) U13(0,-5.08) U15(2.54,-5.08) U17(5.08,-5.08) U19(7.62,-5.08) U21(10.16,-5.08) U23(12.7,-5.08) U25(15.24,-5.08) V2(-13.97,-6.35) V4(-11.43,-6.35) V6(-8.89,-6.35) V8(-6.35,-6.35) V10(-3.81,-6.35) V12(-1.27,-6.35) V14(1.27,-6.35) V16(3.81,-6.35) V18(6.35,-6.35) V20(8.89,-6.35) V22(11.43,-6.35) V24(13.97,-6.35) W1(-15.24,-7.62) W3(-12.7,-7.62) W5(-10.16,-7.62) W7(-7.62,-7.62) W9(-5.08,-7.62) W11(-2.54,-7.62) W13(0,-7.62) W15(2.54,-7.62) W17(5.08,-7.62) W19(7.62,-7.62) W21(10.16,-7.62) W23(12.7,-7.62) W25(15.24,-7.62) Y2(-13.97,-8.89) Y4(-11.43,-8.89) Y6(-8.89,-8.89) Y8(-6.35,-8.89) Y10(-3.81,-8.89) Y12(-1.27,-8.89) Y14(1.27,-8.89) Y16(3.81,-8.89) Y18(6.35,-8.89) Y20(8.89,-8.89) Y22(11.43,-8.89) Y24(13.97,-8.89)
Top Overlay:
  circle w0.25: c-17.16,15.24 r0.125
  region: -15.5,16.502 -16.5,15.502 -16.5,16.502
  lines w0.2: -16.5,15.5 -15.5,16.5 ; -16.5,-16.5 16.5,-16.5 16.5,16.5 -16.5,16.5 -16.5,-16.5
Mechanical 15:
  lines w0.1: -0.5,0 0.5,0 ; 0,-0.5 0,0.5 ; -17.5,-17.5 17.5,-17.5 17.5,17.5 -17.5,17.5 -17.5,-17.5

## BGA127P25X25-625 [mm] "BGA, 625-Leads, Body 33x33mm, Pitch 1.27mm"
height 3.5
pads (625):
  round 0.6 smd: A1(-15.24,15.24) A2(-13.97,15.24) A3(-12.7,15.24) A4(-11.43,15.24) A5(-10.16,15.24) A6(-8.89,15.24) A7(-7.62,15.24) A8(-6.35,15.24) A9(-5.08,15.24) A10(-3.81,15.24) A11(-2.54,15.24) A12(-1.27,15.24) A13(0,15.24) A14(1.27,15.24) A15(2.54,15.24) A16(3.81,15.24) A17(5.08,15.24) A18(6.35,15.24) A19(7.62,15.24) A20(8.89,15.24) A21(10.16,15.24) A22(11.43,15.24) A23(12.7,15.24) A24(13.97,15.24) A25(15.24,15.24) AA1(-15.24,-10.16) AA2(-13.97,-10.16) AA3(-12.7,-10.16) AA4(-11.43,-10.16) AA5(-10.16,-10.16) AA6(-8.89,-10.16) AA7(-7.62,-10.16) AA8(-6.35,-10.16) AA9(-5.08,-10.16) AA10(-3.81,-10.16) AA11(-2.54,-10.16) AA12(-1.27,-10.16) AA13(0,-10.16) AA14(1.27,-10.16) AA15(2.54,-10.16) AA16(3.81,-10.16) AA17(5.08,-10.16) AA18(6.35,-10.16) AA19(7.62,-10.16) AA20(8.89,-10.16) AA21(10.16,-10.16) AA22(11.43,-10.16) AA23(12.7,-10.16) AA24(13.97,-10.16) AA25(15.24,-10.16) AB1(-15.24,-11.43) AB2(-13.97,-11.43) AB3(-12.7,-11.43) AB4(-11.43,-11.43) AB5(-10.16,-11.43) AB6(-8.89,-11.43) AB7(-7.62,-11.43) AB8(-6.35,-11.43) AB9(-5.08,-11.43) AB10(-3.81,-11.43) AB11(-2.54,-11.43) AB12(-1.27,-11.43) AB13(0,-11.43) AB14(1.27,-11.43) AB15(2.54,-11.43) AB16(3.81,-11.43) AB17(5.08,-11.43) AB18(6.35,-11.43) AB19(7.62,-11.43) AB20(8.89,-11.43) AB21(10.16,-11.43) AB22(11.43,-11.43) AB23(12.7,-11.43) AB24(13.97,-11.43) AB25(15.24,-11.43) AC1(-15.24,-12.7) AC2(-13.97,-12.7) AC3(-12.7,-12.7) AC4(-11.43,-12.7) AC5(-10.16,-12.7) AC6(-8.89,-12.7) AC7(-7.62,-12.7) AC8(-6.35,-12.7) AC9(-5.08,-12.7) AC10(-3.81,-12.7) AC11(-2.54,-12.7) AC12(-1.27,-12.7) AC13(0,-12.7) AC14(1.27,-12.7) AC15(2.54,-12.7) AC16(3.81,-12.7) AC17(5.08,-12.7) AC18(6.35,-12.7) AC19(7.62,-12.7) AC20(8.89,-12.7) AC21(10.16,-12.7) AC22(11.43,-12.7) AC23(12.7,-12.7) AC24(13.97,-12.7) AC25(15.24,-12.7) AD1(-15.24,-13.97) AD2(-13.97,-13.97) AD3(-12.7,-13.97) AD4(-11.43,-13.97) AD5(-10.16,-13.97) AD6(-8.89,-13.97) AD7(-7.62,-13.97) AD8(-6.35,-13.97) AD9(-5.08,-13.97) AD10(-3.81,-13.97) AD11(-2.54,-13.97) AD12(-1.27,-13.97) AD13(0,-13.97) AD14(1.27,-13.97) AD15(2.54,-13.97) AD16(3.81,-13.97) AD17(5.08,-13.97) AD18(6.35,-13.97) AD19(7.62,-13.97) AD20(8.89,-13.97) AD21(10.16,-13.97) AD22(11.43,-13.97) AD23(12.7,-13.97) AD24(13.97,-13.97) AD25(15.24,-13.97) AE1(-15.24,-15.24) AE2(-13.97,-15.24) AE3(-12.7,-15.24) AE4(-11.43,-15.24) AE5(-10.16,-15.24) AE6(-8.89,-15.24) AE7(-7.62,-15.24) AE8(-6.35,-15.24) AE9(-5.08,-15.24) AE10(-3.81,-15.24) AE11(-2.54,-15.24) AE12(-1.27,-15.24) AE13(0,-15.24) AE14(1.27,-15.24) AE15(2.54,-15.24) AE16(3.81,-15.24) AE17(5.08,-15.24) AE18(6.35,-15.24) AE19(7.62,-15.24) AE20(8.89,-15.24) AE21(10.16,-15.24) AE22(11.43,-15.24) AE23(12.7,-15.24) AE24(13.97,-15.24) AE25(15.24,-15.24) B1(-15.24,13.97) B2(-13.97,13.97) B3(-12.7,13.97) B4(-11.43,13.97) B5(-10.16,13.97) B6(-8.89,13.97) B7(-7.62,13.97) B8(-6.35,13.97) B9(-5.08,13.97) B10(-3.81,13.97) B11(-2.54,13.97) B12(-1.27,13.97) B13(0,13.97) B14(1.27,13.97) B15(2.54,13.97) B16(3.81,13.97) B17(5.08,13.97) B18(6.35,13.97) B19(7.62,13.97) B20(8.89,13.97) B21(10.16,13.97) B22(11.43,13.97) B23(12.7,13.97) B24(13.97,13.97) B25(15.24,13.97) C1(-15.24,12.7) C2(-13.97,12.7) C3(-12.7,12.7) C4(-11.43,12.7) C5(-10.16,12.7) C6(-8.89,12.7) C7(-7.62,12.7) C8(-6.35,12.7) C9(-5.08,12.7) C10(-3.81,12.7) C11(-2.54,12.7) C12(-1.27,12.7) C13(0,12.7) C14(1.27,12.7) C15(2.54,12.7) C16(3.81,12.7) C17(5.08,12.7) C18(6.35,12.7) C19(7.62,12.7) C20(8.89,12.7) C21(10.16,12.7) C22(11.43,12.7) C23(12.7,12.7) C24(13.97,12.7) C25(15.24,12.7) D1(-15.24,11.43) D2(-13.97,11.43) D3(-12.7,11.43) D4(-11.43,11.43) D5(-10.16,11.43) D6(-8.89,11.43) D7(-7.62,11.43) D8(-6.35,11.43) D9(-5.08,11.43) D10(-3.81,11.43) D11(-2.54,11.43) D12(-1.27,11.43) D13(0,11.43) D14(1.27,11.43) D15(2.54,11.43) D16(3.81,11.43) D17(5.08,11.43) D18(6.35,11.43) D19(7.62,11.43) D20(8.89,11.43) D21(10.16,11.43) D22(11.43,11.43) D23(12.7,11.43) D24(13.97,11.43) D25(15.24,11.43) E1(-15.24,10.16) E2(-13.97,10.16) E3(-12.7,10.16) E4(-11.43,10.16) E5(-10.16,10.16) E6(-8.89,10.16) E7(-7.62,10.16) E8(-6.35,10.16) E9(-5.08,10.16) E10(-3.81,10.16) E11(-2.54,10.16) E12(-1.27,10.16) E13(0,10.16) E14(1.27,10.16) E15(2.54,10.16) E16(3.81,10.16) E17(5.08,10.16) E18(6.35,10.16) E19(7.62,10.16) E20(8.89,10.16) E21(10.16,10.16) E22(11.43,10.16) E23(12.7,10.16) E24(13.97,10.16) E25(15.24,10.16) F1(-15.24,8.89) F2(-13.97,8.89) F3(-12.7,8.89) F4(-11.43,8.89) F5(-10.16,8.89) F6(-8.89,8.89) F7(-7.62,8.89) F8(-6.35,8.89) F9(-5.08,8.89) F10(-3.81,8.89) F11(-2.54,8.89) F12(-1.27,8.89) F13(0,8.89) F14(1.27,8.89) F15(2.54,8.89) F16(3.81,8.89) F17(5.08,8.89) F18(6.35,8.89) F19(7.62,8.89) F20(8.89,8.89) F21(10.16,8.89) F22(11.43,8.89) F23(12.7,8.89) F24(13.97,8.89) F25(15.24,8.89) G1(-15.24,7.62) G2(-13.97,7.62) G3(-12.7,7.62) G4(-11.43,7.62) G5(-10.16,7.62) G6(-8.89,7.62) G7(-7.62,7.62) G8(-6.35,7.62) G9(-5.08,7.62) G10(-3.81,7.62) G11(-2.54,7.62) G12(-1.27,7.62) G13(0,7.62) G14(1.27,7.62) G15(2.54,7.62) G16(3.81,7.62) G17(5.08,7.62) G18(6.35,7.62) G19(7.62,7.62) G20(8.89,7.62) G21(10.16,7.62) G22(11.43,7.62) G23(12.7,7.62) G24(13.97,7.62) G25(15.24,7.62) H1(-15.24,6.35) H2(-13.97,6.35) H3(-12.7,6.35) H4(-11.43,6.35) H5(-10.16,6.35) H6(-8.89,6.35) H7(-7.62,6.35) H8(-6.35,6.35) H9(-5.08,6.35) H10(-3.81,6.35) H11(-2.54,6.35) H12(-1.27,6.35) H13(0,6.35) H14(1.27,6.35) H15(2.54,6.35) H16(3.81,6.35) H17(5.08,6.35) H18(6.35,6.35) H19(7.62,6.35) H20(8.89,6.35) H21(10.16,6.35) H22(11.43,6.35) H23(12.7,6.35) H24(13.97,6.35) H25(15.24,6.35) J1(-15.24,5.08) J2(-13.97,5.08) J3(-12.7,5.08) J4(-11.43,5.08) J5(-10.16,5.08) J6(-8.89,5.08) J7(-7.62,5.08) J8(-6.35,5.08) J9(-5.08,5.08) J10(-3.81,5.08) J11(-2.54,5.08) J12(-1.27,5.08) J13(0,5.08) J14(1.27,5.08) J15(2.54,5.08) J16(3.81,5.08) J17(5.08,5.08) J18(6.35,5.08) J19(7.62,5.08) J20(8.89,5.08) J21(10.16,5.08) J22(11.43,5.08) J23(12.7,5.08) J24(13.97,5.08) J25(15.24,5.08) K1(-15.24,3.81) K2(-13.97,3.81) K3(-12.7,3.81) K4(-11.43,3.81) K5(-10.16,3.81) K6(-8.89,3.81) K7(-7.62,3.81) K8(-6.35,3.81) K9(-5.08,3.81) K10(-3.81,3.81) K11(-2.54,3.81) K12(-1.27,3.81) K13(0,3.81) K14(1.27,3.81) K15(2.54,3.81) K16(3.81,3.81) K17(5.08,3.81) K18(6.35,3.81) K19(7.62,3.81) K20(8.89,3.81) K21(10.16,3.81) K22(11.43,3.81) K23(12.7,3.81) K24(13.97,3.81) K25(15.24,3.81) L1(-15.24,2.54) L2(-13.97,2.54) L3(-12.7,2.54) L4(-11.43,2.54) L5(-10.16,2.54) L6(-8.89,2.54) L7(-7.62,2.54) L8(-6.35,2.54) L9(-5.08,2.54) L10(-3.81,2.54) L11(-2.54,2.54) L12(-1.27,2.54) L13(0,2.54) L14(1.27,2.54) L15(2.54,2.54) L16(3.81,2.54) L17(5.08,2.54) L18(6.35,2.54) L19(7.62,2.54) L20(8.89,2.54) L21(10.16,2.54) L22(11.43,2.54) L23(12.7,2.54) L24(13.97,2.54) L25(15.24,2.54) M1(-15.24,1.27) M2(-13.97,1.27) M3(-12.7,1.27) M4(-11.43,1.27) M5(-10.16,1.27) M6(-8.89,1.27) M7(-7.62,1.27) M8(-6.35,1.27) M9(-5.08,1.27) M10(-3.81,1.27) M11(-2.54,1.27) M12(-1.27,1.27) M13(0,1.27) M14(1.27,1.27) M15(2.54,1.27) M16(3.81,1.27) M17(5.08,1.27) M18(6.35,1.27) M19(7.62,1.27) M20(8.89,1.27) M21(10.16,1.27) M22(11.43,1.27) M23(12.7,1.27) M24(13.97,1.27) M25(15.24,1.27) N1(-15.24,0) N2(-13.97,0) N3(-12.7,0) N4(-11.43,0) N5(-10.16,0) N6(-8.89,0) N7(-7.62,0) N8(-6.35,0) N9(-5.08,0) N10(-3.81,0) N11(-2.54,0) N12(-1.27,0) N13(0,0) N14(1.27,0) N15(2.54,0) N16(3.81,0) N17(5.08,0) N18(6.35,0) N19(7.62,0) N20(8.89,0) N21(10.16,0) N22(11.43,0) N23(12.7,0) N24(13.97,0) N25(15.24,0) P1(-15.24,-1.27) P2(-13.97,-1.27) P3(-12.7,-1.27) P4(-11.43,-1.27) P5(-10.16,-1.27) P6(-8.89,-1.27) P7(-7.62,-1.27) P8(-6.35,-1.27) P9(-5.08,-1.27) P10(-3.81,-1.27) P11(-2.54,-1.27) P12(-1.27,-1.27) P13(0,-1.27) P14(1.27,-1.27) P15(2.54,-1.27) P16(3.81,-1.27) P17(5.08,-1.27) P18(6.35,-1.27) P19(7.62,-1.27) P20(8.89,-1.27) P21(10.16,-1.27) P22(11.43,-1.27) P23(12.7,-1.27) P24(13.97,-1.27) P25(15.24,-1.27) R1(-15.24,-2.54) R2(-13.97,-2.54) R3(-12.7,-2.54) R4(-11.43,-2.54) R5(-10.16,-2.54) R6(-8.89,-2.54) R7(-7.62,-2.54) R8(-6.35,-2.54) R9(-5.08,-2.54) R10(-3.81,-2.54) R11(-2.54,-2.54) R12(-1.27,-2.54) R13(0,-2.54) R14(1.27,-2.54) R15(2.54,-2.54) R16(3.81,-2.54) R17(5.08,-2.54) R18(6.35,-2.54) R19(7.62,-2.54) R20(8.89,-2.54) R21(10.16,-2.54) R22(11.43,-2.54) R23(12.7,-2.54) R24(13.97,-2.54) R25(15.24,-2.54) T1(-15.24,-3.81) T2(-13.97,-3.81) T3(-12.7,-3.81) T4(-11.43,-3.81) T5(-10.16,-3.81) T6(-8.89,-3.81) T7(-7.62,-3.81) T8(-6.35,-3.81) T9(-5.08,-3.81) T10(-3.81,-3.81) T11(-2.54,-3.81) T12(-1.27,-3.81) T13(0,-3.81) T14(1.27,-3.81) T15(2.54,-3.81) T16(3.81,-3.81) T17(5.08,-3.81) T18(6.35,-3.81) T19(7.62,-3.81) T20(8.89,-3.81) T21(10.16,-3.81) T22(11.43,-3.81) T23(12.7,-3.81) T24(13.97,-3.81) T25(15.24,-3.81) U1(-15.24,-5.08) U2(-13.97,-5.08) U3(-12.7,-5.08) U4(-11.43,-5.08) U5(-10.16,-5.08) U6(-8.89,-5.08) U7(-7.62,-5.08) U8(-6.35,-5.08) U9(-5.08,-5.08) U10(-3.81,-5.08) U11(-2.54,-5.08) U12(-1.27,-5.08) U13(0,-5.08) U14(1.27,-5.08) U15(2.54,-5.08) U16(3.81,-5.08) U17(5.08,-5.08) U18(6.35,-5.08) U19(7.62,-5.08) U20(8.89,-5.08) U21(10.16,-5.08) U22(11.43,-5.08) U23(12.7,-5.08) U24(13.97,-5.08) U25(15.24,-5.08) V1(-15.24,-6.35) V2(-13.97,-6.35) V3(-12.7,-6.35) V4(-11.43,-6.35) V5(-10.16,-6.35) V6(-8.89,-6.35) V7(-7.62,-6.35) V8(-6.35,-6.35) V9(-5.08,-6.35) V10(-3.81,-6.35) V11(-2.54,-6.35) V12(-1.27,-6.35) V13(0,-6.35) V14(1.27,-6.35) V15(2.54,-6.35) V16(3.81,-6.35) V17(5.08,-6.35) V18(6.35,-6.35) V19(7.62,-6.35) V20(8.89,-6.35) V21(10.16,-6.35) V22(11.43,-6.35) V23(12.7,-6.35) V24(13.97,-6.35) V25(15.24,-6.35) W1(-15.24,-7.62) W2(-13.97,-7.62) W3(-12.7,-7.62) W4(-11.43,-7.62) W5(-10.16,-7.62) W6(-8.89,-7.62) W7(-7.62,-7.62) W8(-6.35,-7.62) W9(-5.08,-7.62) W10(-3.81,-7.62) W11(-2.54,-7.62) W12(-1.27,-7.62) W13(0,-7.62) W14(1.27,-7.62) W15(2.54,-7.62) W16(3.81,-7.62) W17(5.08,-7.62) W18(6.35,-7.62) W19(7.62,-7.62) W20(8.89,-7.62) W21(10.16,-7.62) W22(11.43,-7.62) W23(12.7,-7.62) W24(13.97,-7.62) W25(15.24,-7.62) Y1(-15.24,-8.89) Y2(-13.97,-8.89) Y3(-12.7,-8.89) Y4(-11.43,-8.89) Y5(-10.16,-8.89) Y6(-8.89,-8.89) Y7(-7.62,-8.89) Y8(-6.35,-8.89) Y9(-5.08,-8.89) Y10(-3.81,-8.89) Y11(-2.54,-8.89) Y12(-1.27,-8.89) Y13(0,-8.89) Y14(1.27,-8.89) Y15(2.54,-8.89) Y16(3.81,-8.89) Y17(5.08,-8.89) Y18(6.35,-8.89) Y19(7.62,-8.89) Y20(8.89,-8.89) Y21(10.16,-8.89) Y22(11.43,-8.89) Y23(12.7,-8.89) Y24(13.97,-8.89) Y25(15.24,-8.89)
Top Overlay:
  circle w0.25: c-17.15,15.24 r0.125
  region: -15.5,16.5 -16.5,15.5 -16.5,16.5
  lines w0.2: -16.5,15.5 -15.5,16.5 ; -16.5,-16.5 -16.5,16.5 16.5,16.5 16.5,-16.5 -16.5,-16.5
Mechanical 13:
  lines w0.1: -16.5,-16.5 -16.5,16.5 16.5,16.5 16.5,-16.5 -16.5,-16.5
Mechanical 15:
  lines w0.1: -0.5,0 0.5,0 ; 0,-0.5 0,0.5 ; -17.5,-17.5 -17.5,17.5 17.5,17.5 17.5,-17.5 -17.5,-17.5
3D body: height 3.5, standoff 0, extent -16.5,-16.5 16.5,16.5

## BGA127P26X26-352A [mm] "BGA, 352-Leads, Body 35x35mm, Pitch 1.27mm"
height 1.7
pads (352):
  round 0.6 smd: A1(-15.875,15.875) A2(-14.605,15.875) A3(-13.335,15.875) A4(-12.065,15.875) A5(-10.795,15.875) A6(-9.525,15.875) A7(-8.255,15.875) A8(-6.985,15.875) A9(-5.715,15.875) A10(-4.445,15.875) A11(-3.175,15.875) A12(-1.905,15.875) A13(-0.635,15.875) A14(0.635,15.875) A15(1.905,15.875) A16(3.175,15.875) A17(4.445,15.875) A18(5.715,15.875) A19(6.985,15.875) A20(8.255,15.875) A21(9.525,15.875) A22(10.795,15.875) A23(12.065,15.875) A24(13.335,15.875) A25(14.605,15.875) A26(15.875,15.875) AA1(-15.875,-9.525) AA2(-14.605,-9.525) AA3(-13.335,-9.525) AA4(-12.065,-9.525) AA23(12.065,-9.525) AA24(13.335,-9.525) AA25(14.605,-9.525) AA26(15.875,-9.525) AB1(-15.875,-10.795) AB2(-14.605,-10.795) AB3(-13.335,-10.795) AB4(-12.065,-10.795) AB23(12.065,-10.795) AB24(13.335,-10.795) AB25(14.605,-10.795) AB26(15.875,-10.795) AC1(-15.875,-12.065) AC2(-14.605,-12.065) AC3(-13.335,-12.065) AC4(-12.065,-12.065) AC5(-10.795,-12.065) AC6(-9.525,-12.065) AC7(-8.255,-12.065) AC8(-6.985,-12.065) AC9(-5.715,-12.065) AC10(-4.445,-12.065) AC11(-3.175,-12.065) AC12(-1.905,-12.065) AC13(-0.635,-12.065) AC14(0.635,-12.065) AC15(1.905,-12.065) AC16(3.175,-12.065) AC17(4.445,-12.065) AC18(5.715,-12.065) AC19(6.985,-12.065) AC20(8.255,-12.065) AC21(9.525,-12.065) AC22(10.795,-12.065) AC23(12.065,-12.065) AC24(13.335,-12.065) AC25(14.605,-12.065) AC26(15.875,-12.065) AD1(-15.875,-13.335) AD2(-14.605,-13.335) AD3(-13.335,-13.335) AD4(-12.065,-13.335) AD5(-10.795,-13.335) AD6(-9.525,-13.335) AD7(-8.255,-13.335) AD8(-6.985,-13.335) AD9(-5.715,-13.335) AD10(-4.445,-13.335) AD11(-3.175,-13.335) AD12(-1.905,-13.335) AD13(-0.635,-13.335) AD14(0.635,-13.335) AD15(1.905,-13.335) AD16(3.175,-13.335) AD17(4.445,-13.335) AD18(5.715,-13.335) AD19(6.985,-13.335) AD20(8.255,-13.335) AD21(9.525,-13.335) AD22(10.795,-13.335) AD23(12.065,-13.335) AD24(13.335,-13.335) AD25(14.605,-13.335) AD26(15.875,-13.335) AE1(-15.875,-14.605) AE2(-14.605,-14.605) AE3(-13.335,-14.605) AE4(-12.065,-14.605) AE5(-10.795,-14.605) AE6(-9.525,-14.605) AE7(-8.255,-14.605) AE8(-6.985,-14.605) AE9(-5.715,-14.605) AE10(-4.445,-14.605) AE11(-3.175,-14.605) AE12(-1.905,-14.605) AE13(-0.635,-14.605) AE14(0.635,-14.605) AE15(1.905,-14.605) AE16(3.175,-14.605) AE17(4.445,-14.605) AE18(5.715,-14.605) AE19(6.985,-14.605) AE20(8.255,-14.605) AE21(9.525,-14.605) AE22(10.795,-14.605) AE23(12.065,-14.605) AE24(13.335,-14.605) AE25(14.605,-14.605) AE26(15.875,-14.605) AF1(-15.875,-15.875) AF2(-14.605,-15.875) AF3(-13.335,-15.875) AF4(-12.065,-15.875) AF5(-10.795,-15.875) AF6(-9.525,-15.875) AF7(-8.255,-15.875) AF8(-6.985,-15.875) AF9(-5.715,-15.875) AF10(-4.445,-15.875) AF11(-3.175,-15.875) AF12(-1.905,-15.875) AF13(-0.635,-15.875) AF14(0.635,-15.875) AF15(1.905,-15.875) AF16(3.175,-15.875) AF17(4.445,-15.875) AF18(5.715,-15.875) AF19(6.985,-15.875) AF20(8.255,-15.875) AF21(9.525,-15.875) AF22(10.795,-15.875) AF23(12.065,-15.875) AF24(13.335,-15.875) AF25(14.605,-15.875) AF26(15.875,-15.875) B1(-15.875,14.605) B2(-14.605,14.605) B3(-13.335,14.605) B4(-12.065,14.605) B5(-10.795,14.605) B6(-9.525,14.605) B7(-8.255,14.605) B8(-6.985,14.605) B9(-5.715,14.605) B10(-4.445,14.605) B11(-3.175,14.605) B12(-1.905,14.605) B13(-0.635,14.605) B14(0.635,14.605) B15(1.905,14.605) B16(3.175,14.605) B17(4.445,14.605) B18(5.715,14.605) B19(6.985,14.605) B20(8.255,14.605) B21(9.525,14.605) B22(10.795,14.605) B23(12.065,14.605) B24(13.335,14.605) B25(14.605,14.605) B26(15.875,14.605) C1(-15.875,13.335) C2(-14.605,13.335) C3(-13.335,13.335) C4(-12.065,13.335) C5(-10.795,13.335) C6(-9.525,13.335) C7(-8.255,13.335) C8(-6.985,13.335) C9(-5.715,13.335) C10(-4.445,13.335) C11(-3.175,13.335) C12(-1.905,13.335) C13(-0.635,13.335) C14(0.635,13.335) C15(1.905,13.335) C16(3.175,13.335) C17(4.445,13.335) C18(5.715,13.335) C19(6.985,13.335) C20(8.255,13.335) C21(9.525,13.335) C22(10.795,13.335) C23(12.065,13.335) C24(13.335,13.335) C25(14.605,13.335) C26(15.875,13.335) D1(-15.875,12.065) D2(-14.605,12.065) D3(-13.335,12.065) D4(-12.065,12.065) D5(-10.795,12.065) D6(-9.525,12.065) D7(-8.255,12.065) D8(-6.985,12.065) D9(-5.715,12.065) D10(-4.445,12.065) D11(-3.175,12.065) D12(-1.905,12.065) D13(-0.635,12.065) D14(0.635,12.065) D15(1.905,12.065) D16(3.175,12.065) D17(4.445,12.065) D18(5.715,12.065) D19(6.985,12.065) D20(8.255,12.065) D21(9.525,12.065) D22(10.795,12.065) D23(12.065,12.065) D24(13.335,12.065) D25(14.605,12.065) D26(15.875,12.065) E1(-15.875,10.795) E2(-14.605,10.795) E3(-13.335,10.795) E4(-12.065,10.795) E23(12.065,10.795) E24(13.335,10.795) E25(14.605,10.795) E26(15.875,10.795) F1(-15.875,9.525) F2(-14.605,9.525) F3(-13.335,9.525) F4(-12.065,9.525) F23(12.065,9.525) F24(13.335,9.525) F25(14.605,9.525) F26(15.875,9.525) G1(-15.875,8.255) G2(-14.605,8.255) G3(-13.335,8.255) G4(-12.065,8.255) G23(12.065,8.255) G24(13.335,8.255) G25(14.605,8.255) G26(15.875,8.255) H1(-15.875,6.985) H2(-14.605,6.985) H3(-13.335,6.985) H4(-12.065,6.985) H23(12.065,6.985) H24(13.335,6.985) H25(14.605,6.985) H26(15.875,6.985) J1(-15.875,5.715) J2(-14.605,5.715) J3(-13.335,5.715) J4(-12.065,5.715) J23(12.065,5.715) J24(13.335,5.715) J25(14.605,5.715) J26(15.875,5.715) K1(-15.875,4.445) K2(-14.605,4.445) K3(-13.335,4.445) K4(-12.065,4.445) K23(12.065,4.445) K24(13.335,4.445) K25(14.605,4.445) K26(15.875,4.445) L1(-15.875,3.175) L2(-14.605,3.175) L3(-13.335,3.175) L4(-12.065,3.175) L23(12.065,3.175) L24(13.335,3.175) L25(14.605,3.175) L26(15.875,3.175) M1(-15.875,1.905) M2(-14.605,1.905) M3(-13.335,1.905) M4(-12.065,1.905) M23(12.065,1.905) M24(13.335,1.905) M25(14.605,1.905) M26(15.875,1.905) N1(-15.875,0.635) N2(-14.605,0.635) N3(-13.335,0.635) N4(-12.065,0.635) N23(12.065,0.635) N24(13.335,0.635) N25(14.605,0.635) N26(15.875,0.635) P1(-15.875,-0.635) P2(-14.605,-0.635) P3(-13.335,-0.635) P4(-12.065,-0.635) P23(12.065,-0.635) P24(13.335,-0.635) P25(14.605,-0.635) P26(15.875,-0.635) R1(-15.875,-1.905) R2(-14.605,-1.905) R3(-13.335,-1.905) R4(-12.065,-1.905) R23(12.065,-1.905) R24(13.335,-1.905) R25(14.605,-1.905) R26(15.875,-1.905) T1(-15.875,-3.175) T2(-14.605,-3.175) T3(-13.335,-3.175) T4(-12.065,-3.175) T23(12.065,-3.175) T24(13.335,-3.175) T25(14.605,-3.175) T26(15.875,-3.175) U1(-15.875,-4.445) U2(-14.605,-4.445) U3(-13.335,-4.445) U4(-12.065,-4.445) U23(12.065,-4.445) U24(13.335,-4.445) U25(14.605,-4.445) U26(15.875,-4.445) V1(-15.875,-5.715) V2(-14.605,-5.715) V3(-13.335,-5.715) V4(-12.065,-5.715) V23(12.065,-5.715) V24(13.335,-5.715) V25(14.605,-5.715) V26(15.875,-5.715) W1(-15.875,-6.985) W2(-14.605,-6.985) W3(-13.335,-6.985) W4(-12.065,-6.985) W23(12.065,-6.985) W24(13.335,-6.985) W25(14.605,-6.985) W26(15.875,-6.985) Y1(-15.875,-8.255) Y2(-14.605,-8.255) Y3(-13.335,-8.255) Y4(-12.065,-8.255) Y23(12.065,-8.255) Y24(13.335,-8.255) Y25(14.605,-8.255) Y26(15.875,-8.255)
Top Overlay:
  circle w0.25: c-18.15,15.875 r0.125
  region: -16.5,17.5 -17.5,16.5 -17.5,17.5
  lines w0.2: -17.5,16.5 -16.5,17.5 ; -17.5,-17.5 -17.5,17.5 17.5,17.5 17.5,-17.5 -17.5,-17.5
Mechanical 13:
  lines w0.1: -17.5,-17.5 -17.5,17.5 17.5,17.5 17.5,-17.5 -17.5,-17.5
Mechanical 15:
  lines w0.1: -0.5,0 0.5,0 ; 0,-0.5 0,0.5 ; -18.5,-18.5 -18.5,18.5 18.5,18.5 18.5,-18.5 -18.5,-18.5
3D body: height 1.7, standoff 0, extent -17.5,-17.5 17.5,17.5